# Altium footprint library CAP_3.3uF_630V.PcbLib: 1 footprints
Each footprint in its own frame and in the unit in brackets; x right, y up, seen from the top. Pads: shape width x height; smd on the part's side, far side on the other; paste and mask are expansions set on the pad; w line width, h text height; cw(c..) or ccw(c..) is an arc to the next point about the centre after c.
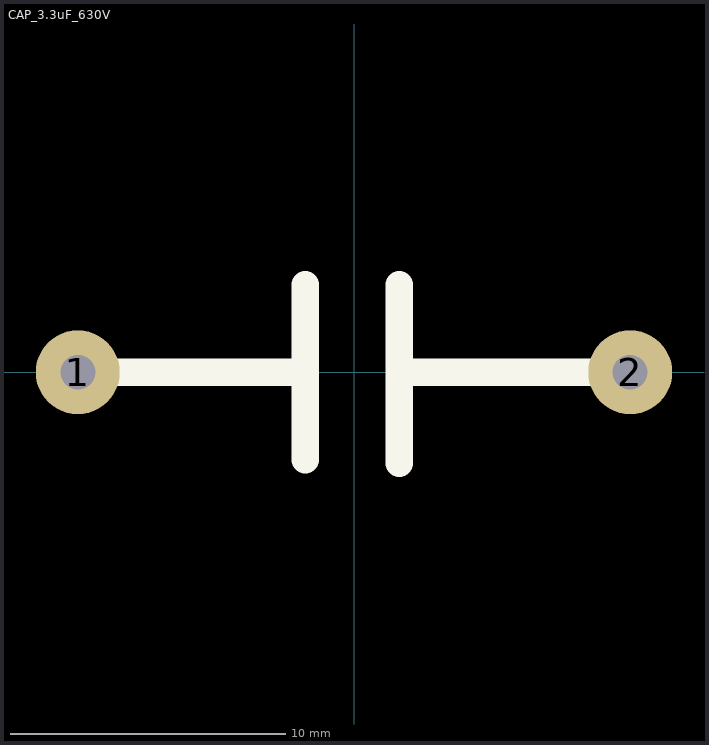
[diagram p0: the footprint, top view; thin cyan lines are the x and y axes]

## CAP_3.3uF_630V [mil]
pads (2):
  round 120 hole 50: 1(-395,0) 2(395,0)
Top Overlay:
  lines w39.37: -395,0 -70,0 ; -70,-125 -70,0 ; -70,125 -70,0 ; 65,-130 65,0 ; 65,125 65,0 ; 395,0 65,0
3D body "Hitano 3.3uF 630V.STEP": height 804.33, standoff -494.88, extent -472.44,-236.22 472.44,236.22